# EAGLE library part 182-025-213R531 (library D-Sub Connectors)
CONN D-SUB RCPT 25POS R/A SOLDER Manufacturer's datasheet <https://media.digikey.com/pdf/Data%20Sheets/Norcomp%20PDFs/182-YYY-213RYY1.pdf>
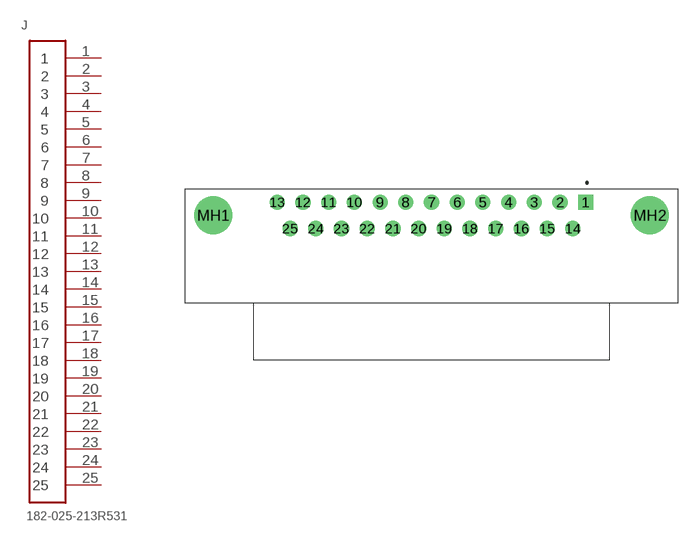
[diagram p14: symbol with the pads of 182-025-213R531; footprint 182-025-213R531]

Designator prefix J

## 182-025-213R531 (CREATED_BY: PCBLayout.com; DIGIKEY_PART_NO: 182-25FE-ND; MANUFACTURER: NorComp Inc.; MPN: 182-025-213R531)  [182-025-213R531]
1  1  pas
2  2  pas
3  3  pas
4  4  pas
5  5  pas
6  6  pas
7  7  pas
8  8  pas
9  9  pas
10  10  pas
11  11  pas
12  12  pas
13  13  pas
14  14  pas
15  15  pas
16  16  pas
17  17  pas
18  18  pas
19  19  pas
20  20  pas
21  21  pas
22  22  pas
23  23  pas
24  24  pas
25  25  pas

## Footprint 182-025-213R531 (pad centres in mm)
drill 1.09 square: 1 16.62,1.42
drill 1.09: 2 13.85,1.42; 3 11.08,1.42; 4 8.31,1.42; 5 5.54,1.42; 6 2.77,1.42; 7 0,1.42; 8 -2.77,1.42; 9 -5.54,1.42; 10 -8.31,1.42; 11 -11.08,1.42; 12 -13.85,1.42; 13 -16.62,1.42; 14 15.235,-1.42; 15 12.465,-1.42; 16 9.695,-1.42; 17 6.925,-1.42; 18 4.155,-1.42; 19 1.385,-1.42; 20 -1.385,-1.42; 21 -4.155,-1.42; 22 -6.925,-1.42; 23 -9.695,-1.42; 24 -12.465,-1.42; 25 -15.235,-1.42
drill 3.05: MH1 -23.52,0; MH2 23.52,0